# Altium schematic symbol library FPC_40pin.SchLib: 1 symbol
Pins are listed as number, name and electrical type; pins without a type are passive.

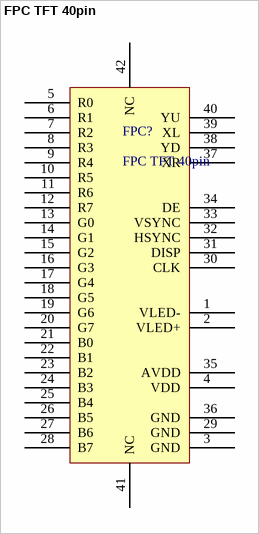
[diagram p0: symbol FPC TFT 40pin]

## FPC TFT 40pin
designator FPC?
footprint FPC40
pins: 1 VLED-, 2 VLED+, 3 GND, 4 VDD, 5 R0, 6 R1, 7 R2, 8 R3, 9 R4, 10 R5, 11 R6, 12 R7, 13 G0, 14 G1, 15 G2, 16 G3, 17 G4, 18 G5, 19 G6, 20 G7, 21 B0, 22 B1, 23 B2, 24 B3, 25 B4, 26 B5, 27 B6, 28 B7, 29 GND, 30 CLK, 31 DISP, 32 HSYNC, 33 VSYNC, 34 DE, 35 AVDD, 36 GND, 37 XR, 38 YD, 39 XL, 40 YU, 41 NC, 42 NC